# Altium integrated library UPM2E330MHD1TN.IntLib: 1 symbol
Pins are listed as number, name and electrical type; pins without a type are passive.

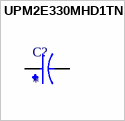
[diagram p0: symbol UPM2E330MHD1TN]

## UPM2E330MHD1TN
designator C?
33ÂµF 250V Aluminum Electrolytic Capacitors Radial, Can 5000 Hrs @ 105Â°C; MP: UPM2E330MHD1TN; MF: Nichicon; Price: None; Availability: Warning; Package: Radial Nichicon; SnapEDA_Link: https://www.snapeda.com/parts/UPM2E330MHD1TN/Nichicon/view-part/2353634/?ref=snap; Check_prices: https://www.snapeda.com/parts/UPM2E330MHD1TN/Nichicon/view-part/2353634/?ref=eda; Value: *; Purchase-URL: https://pricing.snapeda.com/search/part/UPM2E330MHD1TN/?ref=eda
footprint CAPPRD750W80D1600H2700
pins: N, P